# EAGLE library part 6871XX188722_687108188722 (library 68611414422)
WR-FPC 0.50 mm SMT LIF Horizontal Dual Contact KIND PROPERTIES Pitch 0.5 mm MATERIAL PROPERTIES Insulator Material LCP Contact Material Copper Alloy Contact Plating Tin over Nickel Contact Type Stamped Solder Tabs Copper Alloy <https://www.we-online.com/catalog/media/o660834v209%20family-wr-fpc-6871xx188722.jpg> Details see: https://www.we-online.com/catalog/en/FPC_0_5_SMT_LIF_HORIZONTAL_DUAL_CONTACT Created by Ella Wu 2022-03-31 2022(C) Wurth Elektronik
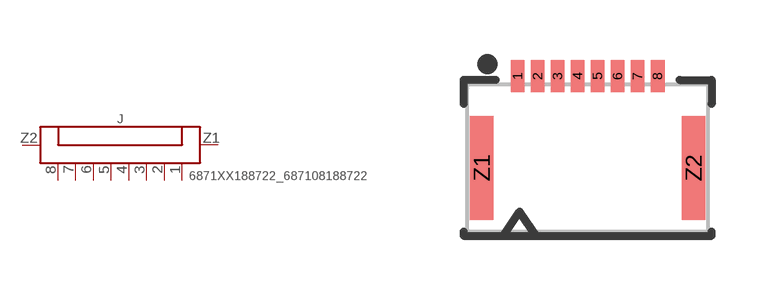
[diagram p236: symbol with the pads of 687108188722; footprint 687108188722]

Designator prefix J

## 6871XX188722_687108188722 (CONTACT-RESISTANCE: 20mOhm; DATASHEET-URL: https://www.we-online.com/catalog/datasheet/687108188722.pdf; IR: 0.5A; L: 6mm; PACKAGING: Tape and Reel; PART-NUMBER: 687108188722; PINS: 8; PITCH: 0.5mm; TYPE: Horizontal; VALUE: 687108188722; WORKING-VOLTAGE: 50V(AC))  [687108188722]
1  1  pas
2  2  pas
3  3  pas
4  4  pas
5  5  pas
6  6  pas
7  7  pas
8  8  pas
Z1  Z1  pas
Z2  Z2  pas

## Footprint 687108188722 (pad centres in mm)
WR-FPC 0.50 mm SMT LIF Horizontal Dual Contact 8pins
smd 0.35 x 0.8: 1 -1.75,2.3; 2 -1.25,2.3; 3 -0.75,2.3; 4 -0.25,2.3; 5 0.25,2.3; 6 0.75,2.3; 7 1.25,2.3; 8 1.75,2.3
smd 0.6 x 2.6: Z1 -2.65,0; Z2 2.65,0